# EAGLE library part 1X11 (library lowfieldmri)
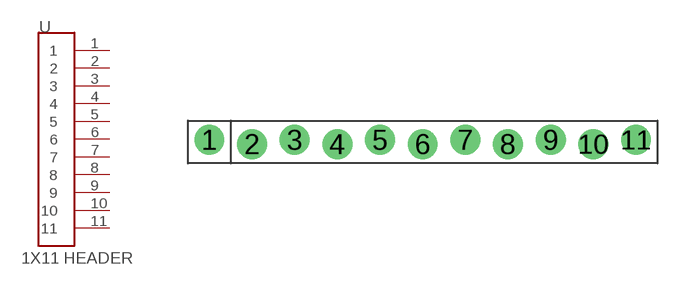
[diagram p3: symbol with the pads of 1X11; footprint 1X11]

Designator prefix -

## 1X11  [1X11]
1  1
2  2
3  3
4  4
5  5
6  6
7  7
8  8
9  9
10  10
11  11

## Footprint 1X11 (pad centres in mm)
drill 1.016 pad 1.778: 1 -12.7,0.127; 2 -10.16,-0.127; 3 -7.62,0.127; 4 -5.08,-0.127; 5 -2.54,0.127; 6 0,-0.127; 7 2.54,0.127; 8 5.08,-0.127; 9 7.62,0.127; 10 10.16,-0.127; 11 12.7,0.127